# EAGLE library part _CON_1X3_3.5MM_V_TH_(TBLH10V) (library SamacSys_Parts)
Fixed Terminal Blocks Terminal block, screwless, High Temp, 3.5, Vertical, 3, Black w Gray Button Source: Datasheet <https://www.mouser.se/datasheet/2/670/tblh10v-350-1651302.pdf>
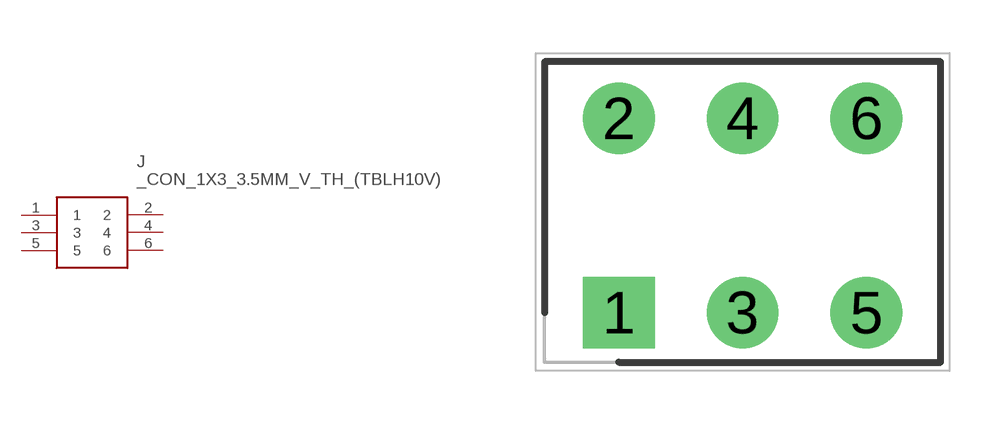
[diagram p36: symbol with the pads of RHDR6W80P550X350_2X3_1120X850X; footprint RHDR6W80P550X350_2X3_1120X850X]

Designator prefix J

## _CON_1X3_3.5MM_V_TH_(TBLH10V) (DESCRIPTION: Fixed Terminal Blocks Terminal block, screwless, High Temp, 3.5, Vertical, 3, Black w Gray Button; HEIGHT: 14.2mm; MANUFACTURER_NAME: CUI Devices; MANUFACTURER_PART_NUMBER: TBLH10V-350-03BK; MOUSER_PART_NUMBER: 490-TBLH10V-350-03BK; MOUSER_PRICE-STOCK: https://www.mouser.co.uk/ProductDetail/CUI-Devices/TBLH10V-350-03BK?qs=UXgszm6BlbGxdDCrBt1lmw%3D%3D)  [RHDR6W80P550X350_2X3_1120X850X]
1  1
2  2
3  3
4  4
5  5
6  6

## Footprint RHDR6W80P550X350_2X3_1120X850X (pad centres in mm)
TBLH10V-350-03BK
drill 1.35 pad 2.025 square: 1 0,0
drill 1.35 pad 2.025: 2 0,5.5; 3 3.5,0; 4 3.5,5.5; 5 7,0; 6 7,5.5